# Altium schematic symbol library SN74LVC3G04YZPR.SchLib: 1 symbol
Pins are listed as number, name and electrical type; pins without a type are passive.

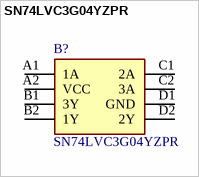
[diagram p0: symbol SN74LVC3G04YZPR]

## SN74LVC3G04YZPR
designator B?
Inverters TRIPLE INVERTER GATE; Manufacturer_Name: Texas Instruments; Geometry.Height: 0.5mm; Mouser Part Number: 595-SN74LVC3G04YZPR; Mouser Price/Stock: https://www.mouser.co.uk/ProductDetail/Texas-Instruments/SN74LVC3G04YZPR?qs=dT9u2OTAaVWej14EwaP%252BOQ%3D%3D; Manufacturer_Part_Number: SN74LVC3G04YZPR; Datasheet Link: https://www.ti.com/lit/ds/symlink/sn74lvc3g04.pdf?HQS=dis-dk-null-digikeymode-dsf-pf-null-wwe&ts=1683639946467&ref_url=https%253A%252F%252Fwww.ti.com%252Fgeneral%252Fdocs%252Fsuppproductinfo.tsp%253FdistId%253D10%2526gotoUrl%253Dhttps%253A%252F%252Fwww.ti
footprint BGA8C50P2X4_89X189X50
pins: A1 1A, A2 VCC, B1 3Y, B2 1Y, C1 2A, C2 3A, D1 GND, D2 2Y